# Altium footprint library C3216X7R1H106K160AC.PcbLib: 3 footprints
Each footprint in its own frame and in the unit in brackets; x right, y up, seen from the top. Pads: shape width x height; smd on the part's side, far side on the other; paste and mask are expansions set on the pad; w line width, h text height; cw(c..) or ccw(c..) is an arc to the next point about the centre after c.
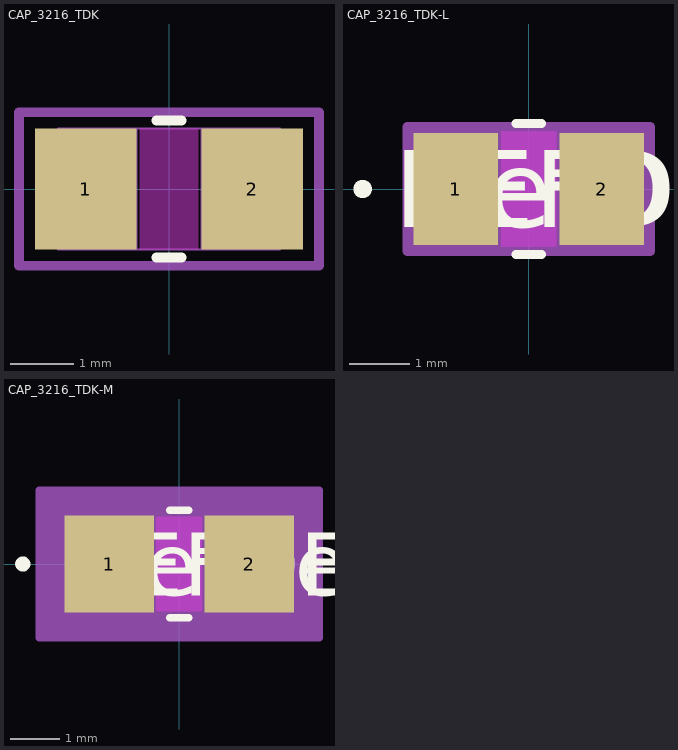
[diagram p0: the footprints below, top view; thin cyan lines are the x and y axes]

## CAP_3216_TDK [mil]
pads (2):
  rect 63x75 smd paste+0 mask+0: 1(-51.5,0) 2(51.5,0)
Top Layer keep-out:
  region: -18,-35.5 -18,35.5 18,35.5 18,-35.5
Top Overlay:
  lines w6: -7.89,-42.5 7.89,-42.5 ; -7.89,42.5 7.89,42.5
Keep-Out Layer:
  region: -18,-37.5 -18,37.5 18,37.5 18,-37.5
Mechanical 13:
  circle w0: c-46.5,0 r3
  lines w1: -69,-37.5 -69,37.5 ; -69,-37.5 -20,-37.5 -20,37.5 -69,37.5 ; -69,-37.5 69,-37.5 ; -69,-37.5 -69,37.5 ; -69,37.5 69,37.5 ; 69,-37.5 20,-37.5 20,37.5 69,37.5 ; 69,-37.5 69,37.5 ; 69,-37.5 69,37.5
Mechanical 15:
  lines w6: -93,-47.5 -93,47.5 93,47.5 93,-47.5 -93,-47.5
3D body "CAP_3216_TDK.step": height 75, standoff 0, extent -69.02,-37.48 69.02,37.48

## CAP_3216_TDK-L [mil]
pads (2):
  rect 55x73 smd paste+0 mask+0: 1(-47.5,0) 2(47.5,0)
Top Layer keep-out:
  region: -18,-35.5 -18,35.5 18,35.5 18,-35.5
Top Overlay:
  circle w6: c-108,0 r3
  lines w6: -8.35,-42.5 8.35,-42.5 ; -8.35,42.5 8.35,42.5
  text "RefDes" at -75,-25 h50
  text "REFDES" at -87.5,-25 h50
Keep-Out Layer:
  region: -18,-37.5 -18,37.5 18,37.5 18,-37.5
Mechanical 13:
  circle w0: c-42.5,0 r3
  lines w1: -69,-37.5 -69,37.5 ; -69,-37.5 -20,-37.5 -20,37.5 -69,37.5 ; -69,-37.5 69,-37.5 ; -69,-37.5 -69,37.5 ; -69,37.5 69,37.5 ; 69,-37.5 20,-37.5 20,37.5 69,37.5 ; 69,-37.5 69,37.5 ; 69,-37.5 69,37.5
  text "RefDes2" at -87.5,-25 h50
Mechanical 15:
  region: 79,-40.5 -79,-40.5 -79,40.5 79,40.5
  lines w6: -79,-40.5 -79,40.5 79,40.5 79,-40.5 -79,-40.5
3D body "CAP_3216_TDK.step": height 75, standoff 0, extent -69.02,-37.48 69.02,37.48

## CAP_3216_TDK-M [mil]
pads (2):
  rect 71x77 smd paste+0 mask+0: 1(-55.5,0) 2(55.5,0)
Top Layer keep-out:
  region: -18,-35.5 -18,35.5 18,35.5 18,-35.5
Top Overlay:
  circle w6: c-124,0 r3
  lines w6: -7.53,-42.5 7.53,-42.5 ; -7.53,42.5 7.53,42.5
  text "RefDes" at -75,-25 h50
  text "REFDES" at -87.5,-25 h50
Keep-Out Layer:
  region: -18,-37.5 -18,37.5 18,37.5 18,-37.5
Mechanical 13:
  circle w0: c-50.5,0 r3
  lines w1: -69,-37.5 -69,37.5 ; -69,-37.5 -20,-37.5 -20,37.5 -69,37.5 ; -69,-37.5 69,-37.5 ; -69,-37.5 -69,37.5 ; -69,37.5 69,37.5 ; 69,-37.5 20,-37.5 20,37.5 69,37.5 ; 69,-37.5 69,37.5 ; 69,-37.5 69,37.5
  text "RefDes2" at -87.5,-25 h50
Mechanical 15:
  region: 111,-58.5 -111,-58.5 -111,58.5 111,58.5
  lines w6: -111,-58.5 -111,58.5 111,58.5 111,-58.5 -111,-58.5
3D body "CAP_3216_TDK.step": height 75, standoff 0, extent -69.02,-37.48 69.02,37.48